# EAGLE library part MAYA-W276-00B (library MAYA-W276-00B)
Multiprotocol Modules IW612, 802.11ax+BT+802.15.4, 1 PCB antenna or ant. pin Source: Datasheet <https://content.u-blox.com/sites/default/files/documents/MAYA-W2_DataSheet_UBX-22009721.pdf>
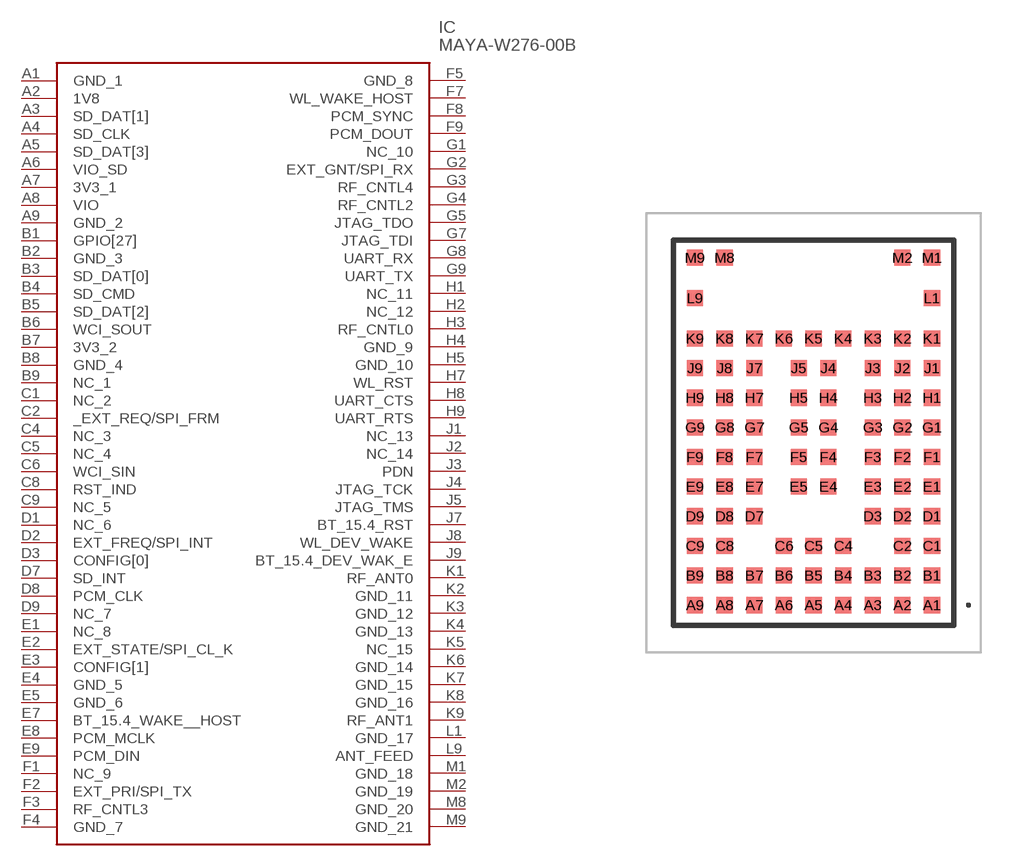
[diagram p0: symbol with the pads of MAYAW27600B; footprint MAYAW27600B]

Designator prefix IC

## MAYA-W276-00B (Description: Multiprotocol Modules IW612, 802.11ax+BT+802.15.4, 1 PCB antenna or ant. pin; Height: 2.12mm; Manufacturer_Name: u-blox; Manufacturer_Part_Number: MAYA-W276-00B; Mouser_Part_Number: 377-MAYA-W276-00B; Mouser_Price-Stock: https://www.mouser.co.uk/ProductDetail/u-blox/MAYA-W276-00B?qs=By6Nw2ByBD2UUDX35rOZMQ%3D%3D)  [MAYAW27600B]
A1  GND_1
A2  1V8
A3  SD_DAT[1]
A4  SD_CLK
A5  SD_DAT[3]
A6  VIO_SD
A7  3V3_1
A8  VIO
A9  GND_2
B1  GPIO[27]
B2  GND_3
B3  SD_DAT[0]
B4  SD_CMD
B5  SD_DAT[2]
B6  WCI_SOUT
B7  3V3_2
B8  GND_4
B9  NC_1
C1  NC_2
C2  _EXT_REQ/SPI_FRM
C4  NC_3
C5  NC_4
C6  WCI_SIN
C8  RST_IND
C9  NC_5
D1  NC_6
D2  EXT_FREQ/SPI_INT
D3  CONFIG[0]
D7  SD_INT
D8  PCM_CLK
D9  NC_7
E1  NC_8
E2  EXT_STATE/SPI_CL_K
E3  CONFIG[1]
E4  GND_5
E5  GND_6
E7  BT_15.4_WAKE__HOST
E8  PCM_MCLK
E9  PCM_DIN
F1  NC_9
F2  EXT_PRI/SPI_TX
F3  RF_CNTL3
F4  GND_7
F5  GND_8
F7  WL_WAKE_HOST
F8  PCM_SYNC
F9  PCM_DOUT
G1  NC_10
G2  EXT_GNT/SPI_RX
G3  RF_CNTL4
G4  RF_CNTL2
G5  JTAG_TDO
G7  JTAG_TDI
G8  UART_RX
G9  UART_TX
H1  NC_11
H2  NC_12
H3  RF_CNTL0
H4  GND_9
H5  GND_10
H7  WL_RST
H8  UART_CTS
H9  UART_RTS
J1  NC_13
J2  NC_14
J3  PDN
J4  JTAG_TCK
J5  JTAG_TMS
J7  BT_15.4_RST
J8  WL_DEV_WAKE
J9  BT_15.4_DEV_WAK_E
K1  RF_ANT0
K2  GND_11
K3  GND_12
K4  GND_13
K5  NC_15
K6  GND_14
K7  GND_15
K8  GND_16
K9  RF_ANT1
L1  GND_17
L9  ANT_FEED
M1  GND_18
M2  GND_19
M8  GND_20
M9  GND_21

## Footprint MAYAW27600B (pad centres in mm)
MAYA-W276-00B-2
smd 0.6 x 0.6: A1 4.4,-6.4; A2 3.3,-6.4; A3 2.2,-6.4; A4 1.1,-6.4; A5 0,-6.4; A6 -1.1,-6.4; A7 -2.2,-6.4; A8 -3.3,-6.4; A9 -4.4,-6.4; B1 4.4,-5.3; B2 3.3,-5.3; B3 2.2,-5.3; B4 1.1,-5.3; B5 0,-5.3; B6 -1.1,-5.3; B7 -2.2,-5.3; B8 -3.3,-5.3; B9 -4.4,-5.3; C1 4.4,-4.2; C2 3.3,-4.2; C4 1.1,-4.2; C5 0,-4.2; C6 -1.1,-4.2; C8 -3.3,-4.2; C9 -4.4,-4.2; D1 4.4,-3.1; D2 3.3,-3.1; D3 2.2,-3.1; D7 -2.2,-3.1; D8 -3.3,-3.1; D9 -4.4,-3.1; E1 4.4,-2; E2 3.3,-2; E3 2.2,-2; E4 0.55,-2; E5 -0.55,-2; E7 -2.2,-2; E8 -3.3,-2; E9 -4.4,-2; F1 4.4,-0.9; F2 3.3,-0.9; F3 2.2,-0.9; F4 0.55,-0.9; F5 -0.55,-0.9; F7 -2.2,-0.9; F8 -3.3,-0.9; F9 -4.4,-0.9; G1 4.4,0.2; G2 3.3,0.2; G3 2.2,0.2; G4 0.55,0.2; G5 -0.55,0.2; G7 -2.2,0.2; G8 -3.3,0.2; G9 -4.4,0.2; H1 4.4,1.3; H2 3.3,1.3; H3 2.2,1.3; H4 0.55,1.3; H5 -0.55,1.3; H7 -2.2,1.3; H8 -3.3,1.3; H9 -4.4,1.3; J1 4.4,2.4; J2 3.3,2.4; J3 2.2,2.4; J4 0.55,2.4; J5 -0.55,2.4; J7 -2.2,2.4; J8 -3.3,2.4; J9 -4.4,2.4; K1 4.4,3.5; K2 3.3,3.5; K3 2.2,3.5; K4 1.1,3.5; K5 0,3.5; K6 -1.1,3.5; K7 -2.2,3.5; K8 -3.3,3.5; K9 -4.4,3.5; L1 4.4,5; L9 -4.4,5; M1 4.4,6.5; M2 3.3,6.5; M8 -3.3,6.5; M9 -4.4,6.5